# EAGLE library part ATMEGA48/88/168/328-PU(DIP28) (library atmel_tiny24-44-84tiny48-88mega48-88-168-328)
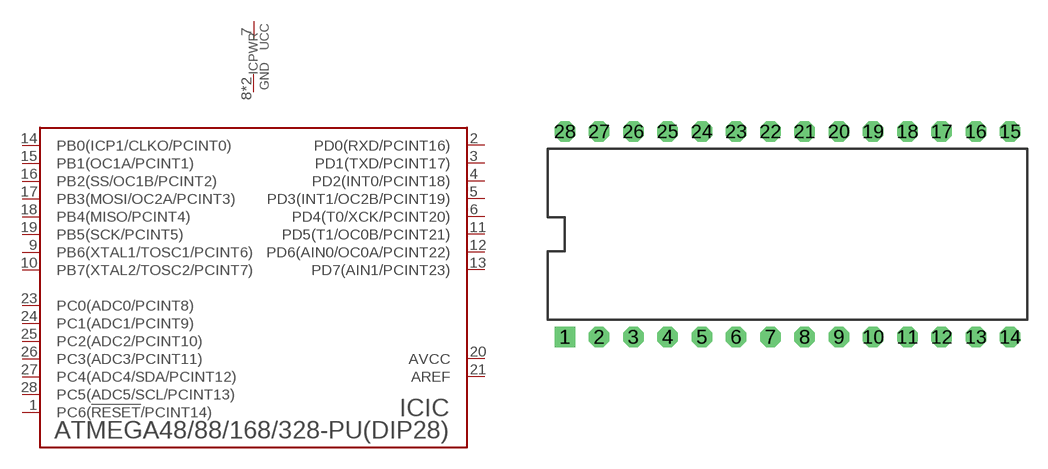
[diagram p3: symbol with the pads of DIL28; footprint DIL28]

Designator prefix IC; gates IC=ATMEGA48/88/168/328-PU(DIP28) PWR=!UCC+GND

## ATMEGA48/88/168/328-PU(DIP28)PU  [DIL28]
1  IC:PC6(!RESET!/PCINT14)
2  IC:PD0(RXD/PCINT16)
3  IC:PD1(TXD/PCINT17)
4  IC:PD2(INT0/PCINT18)
5  IC:PD3(INT1/OC2B/PCINT19)
6  IC:PD4(T0/XCK/PCINT20)
7  PWR:UCC  pwr
8  PWR:GND  pwr
9  IC:PB6(XTAL1/TOSC1/PCINT6)
10  IC:PB7(XTAL2/TOSC2/PCINT7)
11  IC:PD5(T1/OC0B/PCINT21)
12  IC:PD6(AIN0/OC0A/PCINT22)
13  IC:PD7(AIN1/PCINT23)
14  IC:PB0(ICP1/CLKO/PCINT0)
15  IC:PB1(OC1A/PCINT1)
16  IC:PB2(SS/OC1B/PCINT2)
17  IC:PB3(MOSI/OC2A/PCINT3)
18  IC:PB4(MISO/PCINT4)
19  IC:PB5(SCK/PCINT5)
20  IC:AVCC  pwr
21  IC:AREF  pas
22  PWR:GND  pwr
23  IC:PC0(ADC0/PCINT8)
24  IC:PC1(ADC1/PCINT9)
25  IC:PC2(ADC2/PCINT10)
26  IC:PC3(ADC3/PCINT11)
27  IC:PC4(ADC4/SDA/PCINT12)
28  IC:PC5(ADC5/SCL/PCINT13)

## Footprint DIL28 (pad centres in mm)
drill 0.889 pad 1.524 square: 1 -16.51,-7.62
drill 0.889 pad 1.524 octagon: 2 -13.97,-7.62; 3 -11.43,-7.62; 4 -8.89,-7.62; 5 -6.35,-7.62; 6 -3.81,-7.62; 7 -1.27,-7.62; 8 1.27,-7.62; 9 3.81,-7.62; 10 6.35,-7.62; 11 8.89,-7.62; 12 11.43,-7.62; 13 13.97,-7.62; 14 16.51,-7.62; 15 16.51,7.62; 16 13.97,7.62; 17 11.43,7.62; 18 8.89,7.62; 19 6.35,7.62; 20 3.81,7.62; 21 1.27,7.62; 22 -1.27,7.62; 23 -3.81,7.62; 24 -6.35,7.62; 25 -8.89,7.62; 26 -11.43,7.62; 27 -13.97,7.62; 28 -16.51,7.62